# Altium footprint library Iris-EXT-04-BRK_Lib.PcbLib: 11 footprints
Each footprint in its own frame and in the unit in brackets; x right, y up, seen from the top. Pads: shape width x height; smd on the part's side, far side on the other; paste and mask are expansions set on the pad; w line width, h text height; cw(c..) or ccw(c..) is an arc to the next point about the centre after c.
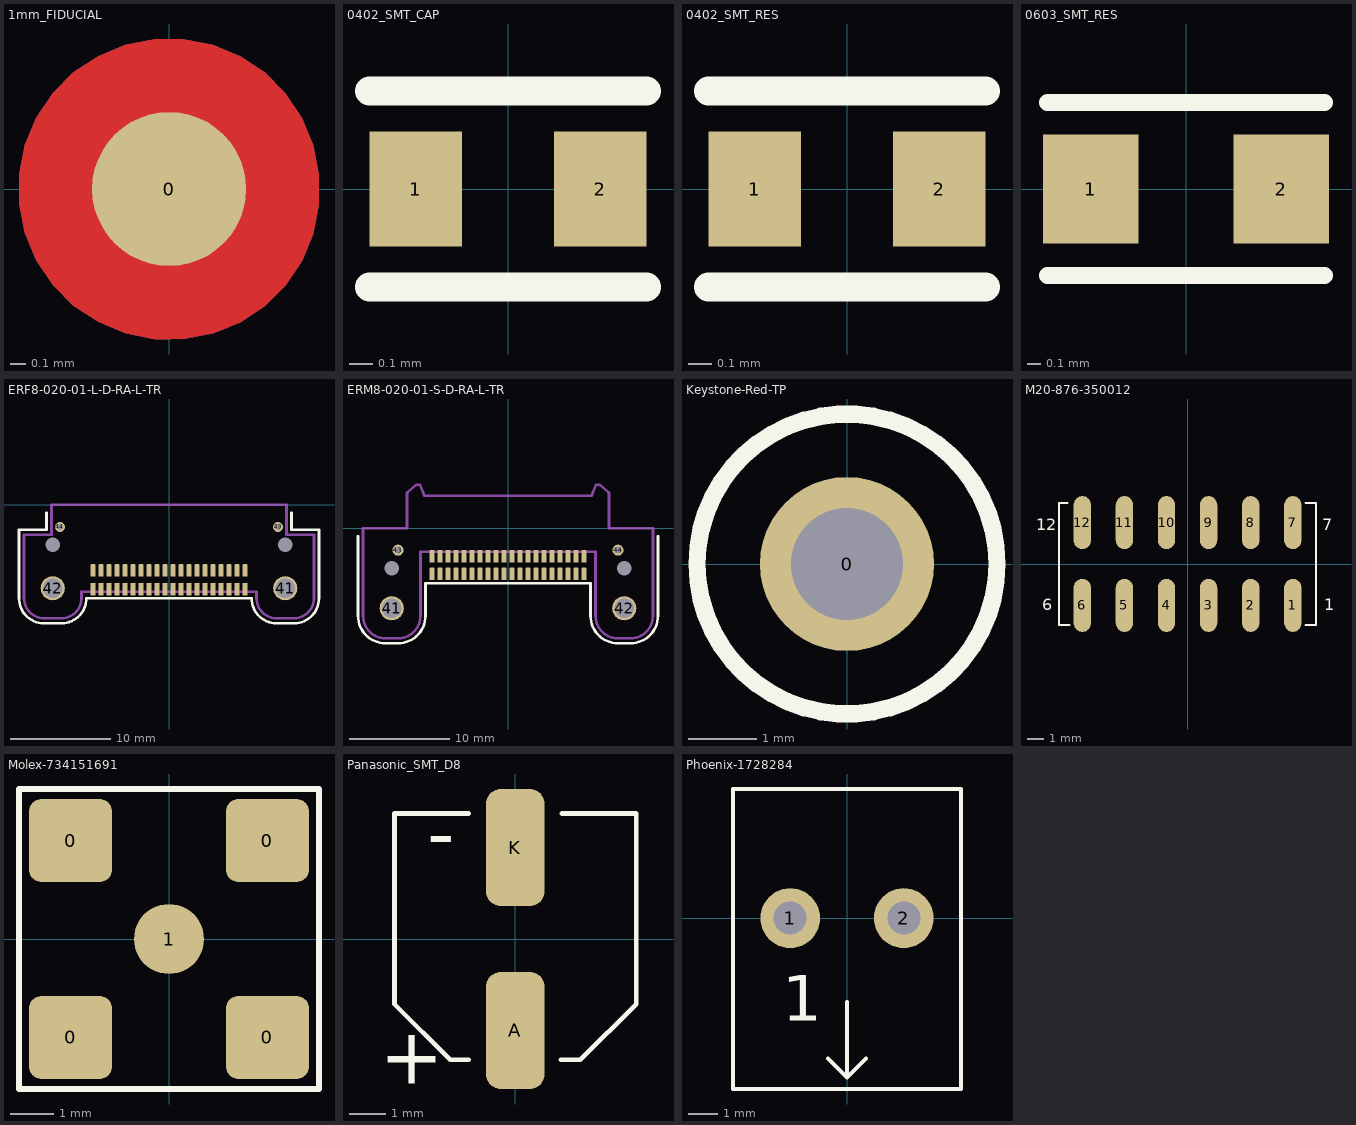
[diagram p0: the footprints below, top view; thin cyan lines are the x and y axes]

## 1mm_FIDUCIAL [mm] "Fiducial Mark"
pads (1):
  round 1 all layers, no hole paste+0 mask+0.35: 0(0,0)
Top Layer:
  pour cut-out: 0,0.974 0.096,0.974 0.284,0.936 0.46,0.863 0.62,0.757 0.755,0.621 0.861,0.462 0.935,0.285 0.972,0.097 0.972,0.001 0.972,-0.011 0.972,-0.106 0.935,-0.292 0.863,-0.467 0.757,-0.625 0.623,-0.759 0.466,-0.864 0.29,-0.937 0.105,-0.974 0.01,-0.974 0,-0.974 -0.096,-0.974 -0.284,-0.936 -0.461,-0.863 -0.621,-0.756 -0.756,-0.621 -0.863,-0.461 -0.936,-0.284 -0.974,-0.096 -0.974,0 -0.974,0.096 -0.936,0.284 -0.863,0.461 -0.756,0.621 -0.621,0.756 -0.461,0.863 -0.284,0.936 -0.096,0.974
Bottom Layer:
  pour cut-out: 0,0.974 0.096,0.974 0.284,0.936 0.46,0.863 0.62,0.757 0.755,0.621 0.861,0.462 0.935,0.285 0.972,0.097 0.972,0.001 0.972,-0.011 0.972,-0.106 0.935,-0.292 0.863,-0.467 0.757,-0.625 0.623,-0.759 0.466,-0.864 0.29,-0.937 0.105,-0.974 0.01,-0.974 0,-0.974 -0.096,-0.974 -0.284,-0.936 -0.461,-0.863 -0.621,-0.756 -0.756,-0.621 -0.863,-0.461 -0.936,-0.284 -0.974,-0.096 -0.974,0 -0.974,0.096 -0.936,0.284 -0.863,0.461 -0.756,0.621 -0.621,0.756 -0.461,0.863 -0.284,0.936 -0.096,0.974
Top Paste:
  circle w0.5: c0,0 r0.25
Bottom Paste:
  circle w0.5: c0,0 r0.25

## 0402_SMT_CAP [mm] "0402 Chip Cap, Res, Ind"
height 1.6
pads (2):
  rect 0.4x0.5 smd: 1(-0.4,0) 2(0.4,0)
Top Overlay:
  lines w0.127: -0.6,-0.425 0.6,-0.425 ; -0.6,0.425 0.6,0.425
3D body "SW3dPS-0402 SMD Capacitor.STEP": height 0.21, standoff 0.01, extent -0.5,-0.3 0.5,0.3

## 0402_SMT_RES [mm] "0402 Imperial Surface Mount Resistor"
height 1.6
pads (2):
  rect 0.4x0.5 smd: 1(-0.4,0) 2(0.4,0)
Top Overlay:
  lines w0.127: -0.6,-0.425 0.6,-0.425 ; -0.6,0.425 0.6,0.425
3D body "SW3dPS-0402 SMD Resistor.STEP": height 0.21, standoff 0.01, extent -0.508,-0.3 0.492,0.3

## 0603_SMT_RES [mm] "0603 Chip Resistor"
height 0.5
pads (2):
  rect 0.7x0.8 smd: 1(-0.7,0) 2(0.7,0)
Top Overlay:
  lines w0.127: -1.016,-0.635 1.016,-0.635 ; -1.016,0.635 1.016,0.635
3D body "SW3dPS-0603 SMD Resistor.STEP": height 0.31, standoff 0.01, extent -0.8,-0.4 0.8,0.4

## ERF8-020-01-L-D-RA-L-TR [mm] "Samtec ERF8 20x2 Latch RA"
height 6.25
pads (46):
  rrect30% 0.5x1.25 smd paste-0.05 mask+0.05: 1(7.6,-6.575) 2(7.6,-8.455) 3(6.8,-6.575) 4(6.8,-8.455) 5(6,-6.575) 6(6,-8.455) 7(5.2,-6.575) 8(5.2,-8.455) 9(4.4,-6.575) 10(4.4,-8.455) 11(3.6,-6.575) 12(3.6,-8.455) 13(2.8,-6.575) 14(2.8,-8.455) 15(2,-6.575) 16(2,-8.455) 17(1.2,-6.575) 18(1.2,-8.455) 19(0.4,-6.575) 20(0.4,-8.455) 21(-0.4,-6.575) 22(-0.4,-8.455) 23(-1.2,-6.575) 24(-1.2,-8.455) 25(-2,-6.575) 26(-2,-8.455) 27(-2.8,-6.575) 28(-2.8,-8.455) 29(-3.6,-6.575) 30(-3.6,-8.455) 31(-4.4,-6.575) 32(-4.4,-8.455) 33(-5.2,-6.575) 34(-5.2,-8.455) 35(-6,-6.575) 36(-6,-8.455) 37(-6.8,-6.575) 38(-6.8,-8.455) 39(-7.6,-6.575) 40(-7.6,-8.455)
  round 2.41 hole 1.905 mask+0.075: 41(11.625,-8.35) 42(-11.625,-8.35)
  round 1 hole 0.63 mask+0.075: 43(10.9,-2.22) 44(-10.9,-2.22)
  round 0 hole 1.45 unplated mask+0.05: MH1(11.625,-4) MH2(-11.625,-4)
Top Overlay:
  lines w0.254: -12.25,-0.8 -12.25,-2.5 -15,-2.5 -15,-9.35 ccw(c-12.5,-9.35) -12.5,-11.85 -10.75,-11.85 ; -10.751,-11.85 ccw(c-10.76,-9.34) -8.25,-9.331 8.25,-9.331 ccw(c10.76,-9.34) 10.751,-11.85 ; 10.75,-11.85 12.5,-11.85 ccw(c12.5,-9.35) 15,-9.35 15,-2.5 12.25,-2.5 12.25,-0.8
Mechanical 1:
  lines w0.254: -14.5,-9.35 ccw(c-12.5,-9.35) -12.5,-11.35 -10.75,-11.35 ccw(c-10.75,-9.35) -8.75,-9.35 -8.75,-8.7 8.75,-8.7 8.75,-9.35 ccw(c10.75,-9.35) 10.75,-11.35 12.5,-11.35 ccw(c12.5,-9.35) 14.5,-9.35 14.5,-3 11.75,-3 11.75,0 -11.75,0 -11.75,-3 -14.5,-3 -14.5,-9.35
3D body "ERF8-020-01-L-D-RA-L-TR.stp": height 6.36, standoff -1.44, extent -14.524,-11.373 14.476,-0.023

## ERM8-020-01-S-D-RA-L-TR [mm] "Samtec ERM8 20x2 Latch RA"
height 6.25
pads (46):
  rrect40% 0.5x1.25 smd paste-0.05 mask+0.05: 1(-7.6,-2.845) 2(-7.6,-4.595) 3(-6.8,-2.845) 4(-6.8,-4.595) 5(-6,-2.845) 6(-6,-4.595) 7(-5.2,-2.845) 8(-5.2,-4.595) 9(-4.4,-2.845) 10(-4.4,-4.595) 11(-3.6,-2.845) 12(-3.6,-4.595) 13(-2.8,-2.845) 14(-2.8,-4.595) 15(-2,-2.845) 16(-2,-4.595) 17(-1.2,-2.845) 18(-1.2,-4.595) 19(-0.4,-2.845) 20(-0.4,-4.595) 21(0.4,-2.845) 22(0.4,-4.595) 23(1.2,-2.845) 24(1.2,-4.595) 25(2,-2.845) 26(2,-4.595) 27(2.8,-2.845) 28(2.8,-4.595) 29(3.6,-2.845) 30(3.6,-4.595) 31(4.4,-2.845) 32(4.4,-4.595) 33(5.2,-2.845) 34(5.2,-4.595) 35(6,-2.845) 36(6,-4.595) 37(6.8,-2.845) 38(6.8,-4.595) 39(7.6,-2.845) 40(7.6,-4.595)
  round 2.41 hole 1.91 mask+0.075: 41(-11.625,-8.03) 42(11.625,-8.03)
  round 1.1 hole 0.7 mask+0.075: 43(-11,-2.22) 44(11,-2.22)
  round 0 hole 1.45 unplated: MH1(-11.625,-4.03) MH2(11.625,-4.03)
Top Overlay:
  lines w0.254: -15,-0.83 -15,-8.78 ccw(c-12.25,-8.78) -12.25,-11.53 -11,-11.53 ccw(c-11,-8.78) -8.25,-8.78 -8.25,-5.504 8.25,-5.504 8.25,-8.78 ccw(c11,-8.78) 11,-11.53 12.25,-11.53 ccw(c12.25,-8.78) 15,-8.78 15,-0.83
Mechanical 1:
  lines w0.254: -14.5,-8.78 ccw(c-12.25,-8.78) -12.25,-11.03 -11,-11.03 ccw(c-11,-8.78) -8.75,-8.78 -8.75,-2.38 8.75,-2.38 8.75,-8.78 ccw(c11,-8.78) 11,-11.03 12.25,-11.03 ccw(c12.25,-8.78) 14.5,-8.78 14.5,-0.03 10.1,-0.03 10.1,3.53 10.099,3.531 10.094,3.535 10.087,3.541 10.077,3.549 10.065,3.56 10.05,3.572 10.033,3.586 9.147,4.33 8.8,4.33 8.48,3.53 8.36,3.23 -8.36,3.23 -8.48,3.53 -8.8,4.33 -9.147,4.33 -10.033,3.586 -10.05,3.572 -10.065,3.56 -10.077,3.549 -10.087,3.541 -10.094,3.535 -10.099,3.531 -10.1,3.53 -10.1,-0.03 -14.5,-0.03 -14.5,-8.78
3D body "ERM8-020-01-S-D-RA-L-TR.stp": height 6.36, standoff -1.57, extent -14.502,-10.997 14.498,4.363

## Keystone-Red-TP [mil] "Keystone Small Through Probe Testpoint - Red"
height 179.92
pads (1):
  round 100 hole 64: 0(0,0)
Top Overlay:
  circle w10: c0,0 r86.02
3D body "User Library-Test Point Keystone - 5000 RED.STEP": height 179.92, standoff -120.08, extent -50,-50 50,50

## M20-876-350012 [mm] "Harwin M20 DIL SMT Straight 2.54mm Header"
height 8.54
pads (12):
  oval 1.05x3.2 smd paste-0.1 mask+0.1: 1(6.35,-2.5) 2(3.81,-2.5) 3(1.27,-2.5) 4(-1.27,-2.5) 5(-3.81,-2.5) 6(-6.35,-2.5) 7(6.35,2.5) 8(3.81,2.5) 9(1.27,2.5) 10(-1.27,2.5) 11(-3.81,2.5) 12(-6.35,2.5)
Top Overlay:
  lines w0.127: -7.239,3.683 -7.747,3.683 -7.747,-3.683 -7.112,-3.683 ; 7.112,-3.683 7.747,-3.683 7.747,3.683 7.112,3.683
  text "12" at -9.144,2.032 h0.7
  text "6" at -8.763,-2.794 h0.7
  text "1" at 8.255,-2.794 h0.7
  text "7" at 8.128,2.032 h0.7
3D body "m20-8760642_asm.stp": height 9.94, standoff 0.01, extent -7.62,-3.595 7.62,3.605

## Molex-734151691 [mm] "Molex MCX PCB SMT Jack 50 Ohm"
height 5.9
pads (5):
  rrect30% 1.9x1.9 smd paste-0.05 mask+0.05: 0(-2.25,-2.25) 0(-2.25,2.25) 0(2.25,-2.25) 0(2.25,2.25)
  round 1.6 smd paste-0.05 mask+0.05: 1(0,0)
Top Overlay:
  lines w0.127: -3.429,-3.429 3.429,-3.429 3.429,3.429 -3.429,3.429 -3.429,-3.429
3D body "User Library-MCX_SMD_v1.STEP": height 5.9, standoff 0, extent -2.95,-2.95 2.95,2.95

## Panasonic_SMT_D8 [mm] "Panasonic Body D8 Electrolytic SMT Cap"
height 6.1
pads (2):
  rrect50% 1.6x3.2 smd paste-0.15: A(0,-2.5) K(0,2.5)
Top Overlay:
  lines w0.127: -1.27,-3.302 -1.778,-3.302 -3.302,-1.778 -3.302,3.429 -1.27,3.429 ; 1.238,-3.302 1.778,-3.302 3.302,-1.778 3.302,3.429 1.27,3.429
  text "-" at -2.413,2.159 h1.52
  text "+" at -3.7,-3.95 h1.52
3D body "User Library-ALU-D8.STEP": height 7.7, standoff 0, extent -3.3,-3.5 3.3,3.5

## Phoenix-1728284 [mm] "PCB Terminal Block 2-pos, angled screw"
height 9.5
pads (2):
  round 2 hole 1.1: 1(-1.9,0) 2(1.9,0)
Top Overlay:
  lines w0.127: -0.635,-4.699 0,-5.334 ; 0,-2.794 0,-5.334 ; 0.635,-4.699 0,-5.334 ; -3.81,-5.715 3.81,-5.715 3.81,4.318 -3.81,4.318 -3.81,-5.715
  text "1" at -2.159,-3.429 h1.52
3D body "1728284_05.stp": height 9.51, standoff -3.49, extent -3.815,-5.7 3.805,4.3